# EAGLE library part YMF262 (library yamaha)
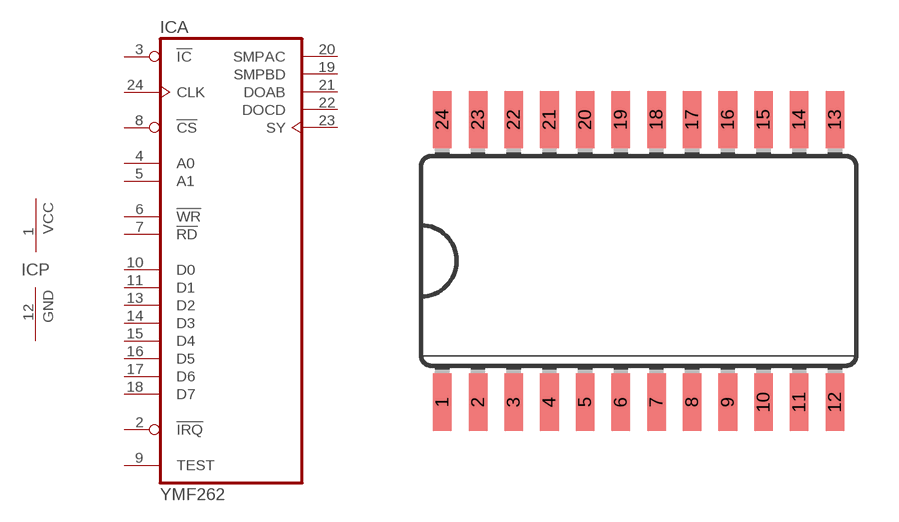
[diagram p2: symbol with the pads of SO24W; footprint SO24W]

Designator prefix IC; gates A=YMF262 P=PWR-GND

## YMF262-M  [SO24W]
1  P:VCC  pwr
2  A:!IRQ  oc
3  A:!IC  in
4  A:A0  in
5  A:A1  in
6  A:!WR  in
7  A:!RD  in
8  A:!CS  in
9  A:TEST  in
10  A:D0
11  A:D1
12  P:GND  pwr
13  A:D2
14  A:D3
15  A:D4
16  A:D5
17  A:D6
18  A:D7
19  A:SMPBD  out
20  A:SMPAC  out
21  A:DOAB  out
22  A:DOCD  out
23  A:SY  out
24  A:CLK  in

## Footprint SO24W (pad centres in mm)
Wide Small Outline package 300 mil
smd 0.66 x 2.032: 1 -6.985,-5.029; 2 -5.715,-5.029; 3 -4.445,-5.029; 4 -3.175,-5.029; 5 -1.905,-5.029; 6 -0.635,-5.029; 7 0.635,-5.029; 8 1.905,-5.029; 9 3.175,-5.029; 10 4.445,-5.029; 11 5.715,-5.029; 12 6.985,-5.029; 13 6.985,5.029; 14 5.715,5.029; 15 4.445,5.029; 16 3.175,5.029; 17 1.905,5.029; 18 0.635,5.029; 19 -0.635,5.029; 20 -1.905,5.029; 21 -3.175,5.029; 22 -4.445,5.029; 23 -5.715,5.029; 24 -6.985,5.029